# Altium schematic symbol library REUN.468349.001_PSU_Board.SchLib: 50 symbols
Pins are listed as number, name and electrical type; pins without a type are passive.

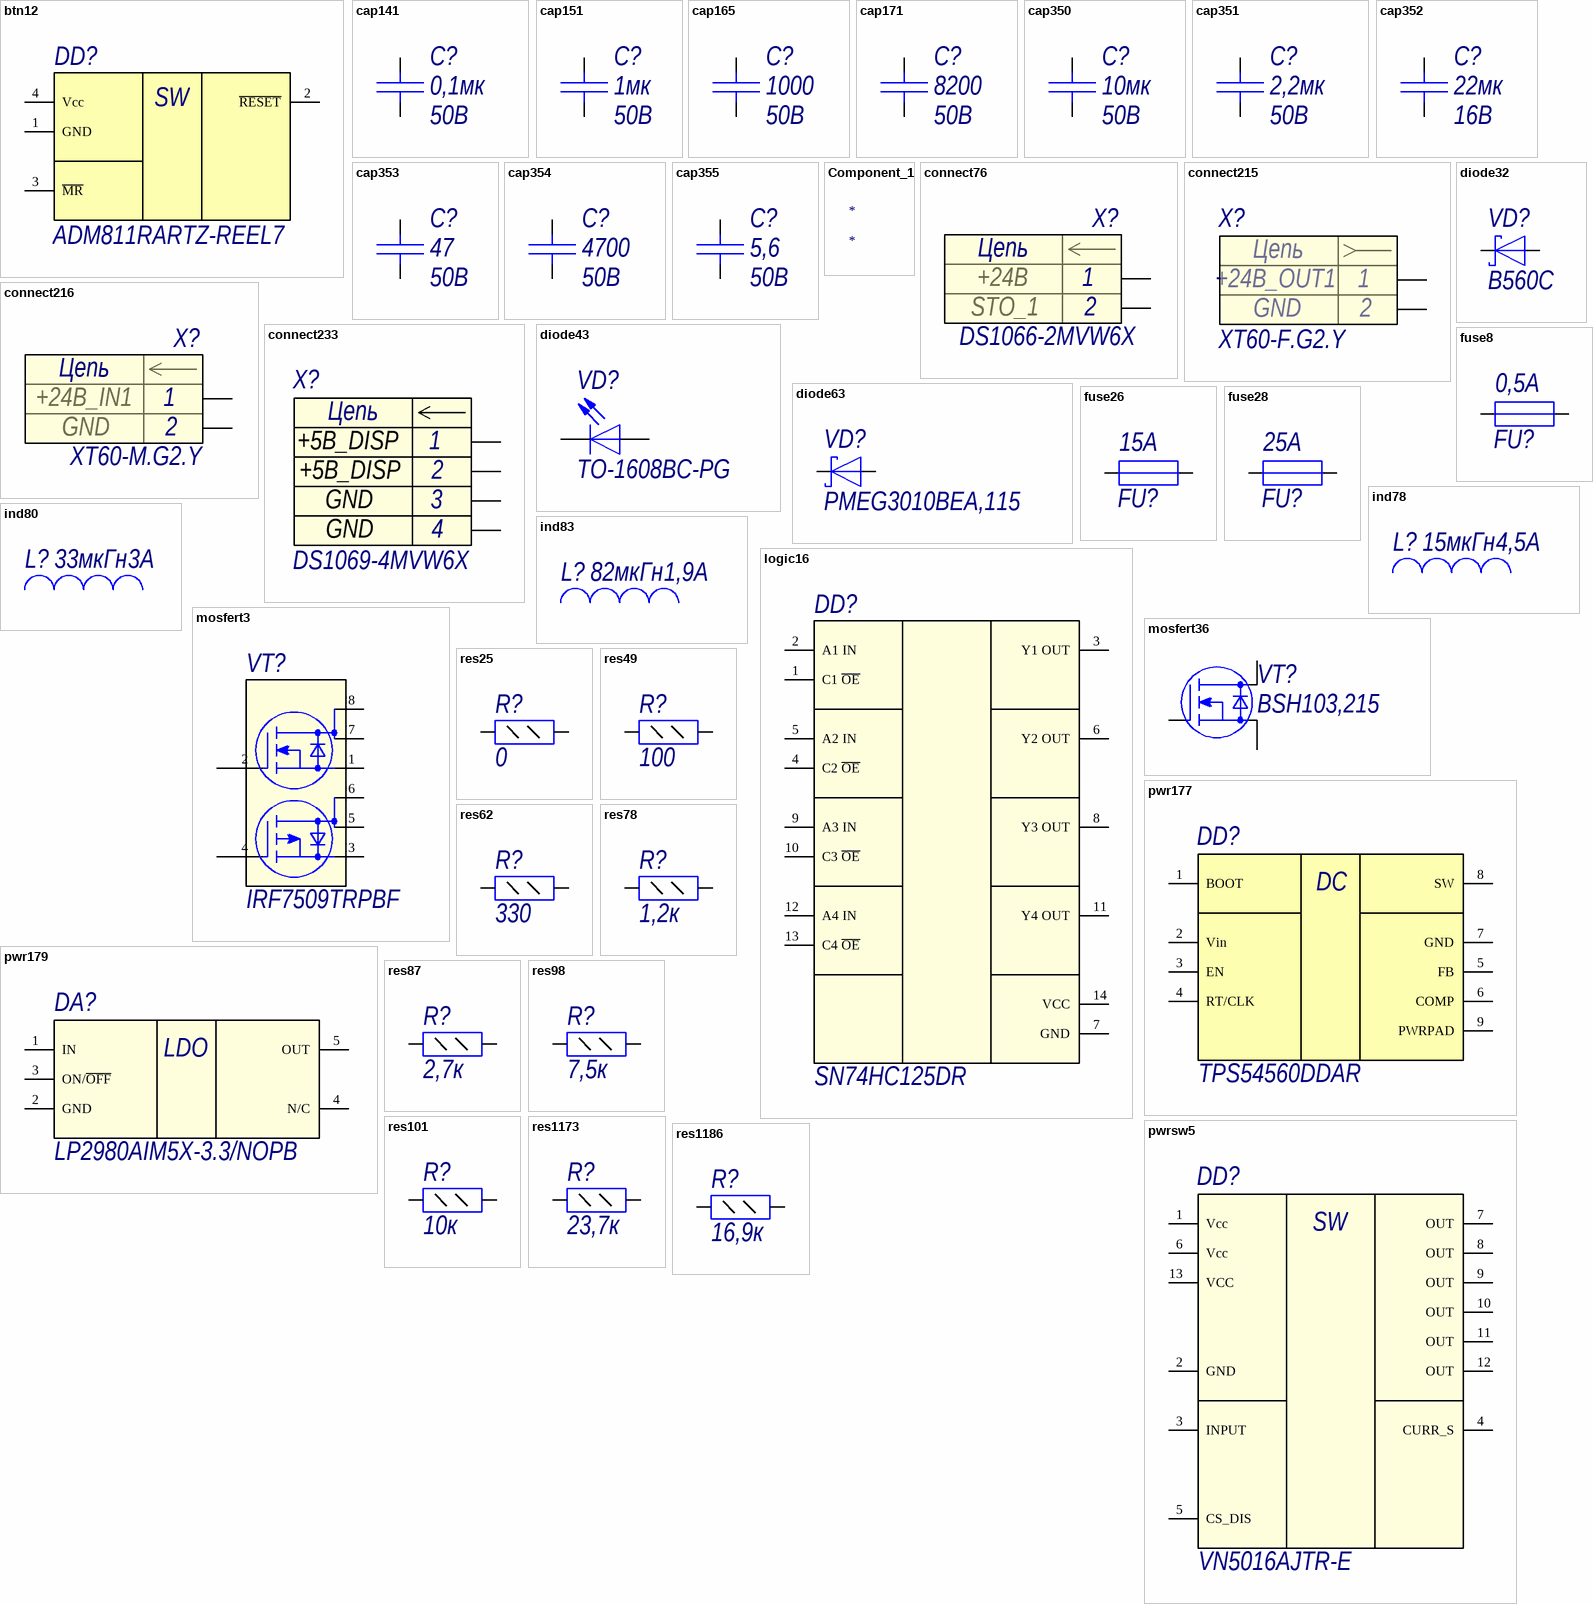
[diagram p0: symbols btn12 to res1186]

## btn12
designator DD?, comment ADM811RARTZ-REEL7
Microprocessor Supervisory / Circuit; Manufacture: Analog Devices; id: btn12; Part Name: Microprocessor Supervisory Circuit; Part Number: ADM811RARTZ-REEL7
footprint SOT-143
pins: 1 GND, 2 ~{RESET}, 3 ~{MR}, 4 Vcc
text: SW

## cap141
designator C?, comment Voltage: 50B  (hidden comment: 0,1мк)
Конденсатор; Part Name: Ceramic; Manufacture: Murata; Part Number: GRM21BR71H104KA01K; id: cap141; TKE: X7R; Value: 0,1мк
footprint C0805
pins: 1, 2

## cap151
designator C?, comment Voltage: 50B  (hidden comment: 1мк)
Конденсатор; Part Name: Ceramic; Manufacture: Murata; Part Number: GRM21BR71H105KA12L; id: cap151; TKE: X7R; Value: 1мк
footprint C0805
pins: 1, 2

## cap165
designator C?, comment Voltage: 50В  (hidden comment: 1000)
Конденсатор; Part Name: Ceramic; Manufacture: Murata; Part Number: GRM216R71H102KA01D; id: cap165; TKE: X7R; Value: 1000
footprint C0805
pins: 1, 2

## cap171
designator C?, comment Voltage: 50В  (hidden comment: 8200)
Конденсатор; Part Name: Ceramic; Manufacture: Murata; Part Number: GRM216R71H822KA01D; id: cap171; TKE: X7R; Value: 8200
footprint C0805
pins: 1, 2

## cap350
designator C?, comment Voltage: 50B  (hidden comment: 10мк)
Конденсатор; Part Name: MLCC; Manufacture: Samsung; Part Number: CL32B106KBJNNNE; id: cap350; TKE: X7R; tga: 0.10%; Value: 10мк
footprint C1210
pins: 1, 2

## cap351
designator C?, comment Voltage: 50B  (hidden comment: 2,2мк)
Конденсатор; Part Name: MLCC; Manufacture: Samsung; Part Number: CL31B225KBHNNNE; id: cap351; TKE: X7R; tga: 0.10%; Value: 2,2мк
footprint C1206
pins: 1, 2

## cap352
designator C?, comment Voltage: 16B  (hidden comment: 22мк)
Конденсатор; Part Name: MLCC; Manufacture: Samsung; Part Number: CL32B226KOJNNNE; id: cap352; TKE: X7R; tga: 0.10%; Value: 22мк
footprint C1210
pins: 1, 2

## cap353
designator C?, comment Voltage: 50B  (hidden comment: 47)
Конденсатор; Part Name: Ceramic; Manufacture: Yageo; Part Number: CC0805JRNPO9BN470; id: cap353; TKE: NP0; tga: 0.05%; Value: 47
footprint C0805
pins: 1, 2

## cap354
designator C?, comment Voltage: 50B  (hidden comment: 4700)
Конденсатор; Part Name: Ceramic; Manufacture: Yageo; Part Number: CC0805KRX7R9BB472; id: cap354; TKE: X7R; tga: 0.10%; Value: 4700
footprint C0805
pins: 1, 2

## cap355
designator C?, comment Voltage: 50B  (hidden comment: 5,6)
Конденсатор; Part Name: Ceramic; Manufacture: Samsung; Part Number: CL21C5R6CBANNNC; id: cap355; TKE: NP0; tga: 0.05%; Value: 5,6
footprint C0805
pins: 1, 2

## Component_1
designator *

## connect76
designator X?, comment DS1066-2MVW6X
Разъем - 2 конт. вилка; Part Name: Вилка на плату прямая 2мм 2pin; Manufacture: Ningbo connfly electronic; Contact_1: +24В; Contact_2: STO_1; id: connect76; Etch: 2mm; Part Number: DS1066-2MVW6X
footprint MW-2M
pins: 1, 2
text: Цепь

## connect215
designator X?, comment XT60-F.G2.Y
Разъем - 2 конт. розетка; Part Name: XT60-F; Manufacture: Amass Electronics; Contact_1: +24B_OUT1; Contact_2: GND; id: connect215; Etch: 7.2mm; Part Number: XT60-F.G2.Y
footprint XT60-F_TH
pins: 1, 2
text: Цепь

## connect216
designator X?, comment XT60-M.G2.Y
Разъем - 2 конт. вилка; Part Name: XT60-M; Manufacture: Amass Electronics; Contact_1: +24B_IN1; Contact_2: GND; id: connect216; Etch: 7.2mm; Part Number: XT60-M.G2.Y
footprint XT60-M_TH
pins: 1, 2
text: Цепь

## connect233
designator X?, comment DS1069-4MVW6X
Разъем - 4 конт. вилка; Part Name: Вилка прямая на плату; Manufacture: Connfly electronic; Contact_1: +5B_DISP; Contact_3: GND; id: connect233; Etch: 2.5мм; Contact_2: +5B_DISP; Contact_4: GND; Part Number: DS1069-4MVW6X
footprint CWF-4
pins: 1, 2, 3, 4
text: Цепь

## diode32
designator VD?, comment B560C
Диод Шоттки; Part Name: SCHOTTKY BARRIER RECTIFIER; Manufacture: Diodes Incorporated; id: diode32; Max Reverse Voltage: 60B; Forward Voltage: 0,7B; Forward Current: 5A; Reverse Current: 20mA; Capacitance: 300pF; Number: 1; Temp MAX: +150; Temp MIN: -55; Part Number: B560C
footprint SMC
pins: 1 K, 2 A

## diode43
designator VD?, comment TO-1608BC-PG
Светодиод; Part Name: LED green 0603; Manufacture: OASISTEK; id: diode43; Part Number: TO-1608BC-PG
footprint L_0603_GREEN
pins: 1 K, 2 A

## diode63
designator VD?, comment PMEG3010BEA,115
Диод Шоттки; Part Name: Diode Schottky; Manufacture: NXP Semiconductor; id: diode63; Max Reverse Voltage: 30B; Forward Voltage: 0,13B; Forward Current: 1А; Peak Current: 10A; Reverse Current: 1,5mA; Number: 1; Temp MAX: +150; Temp MIN: -65; Part Number: PMEG3010BEA,115
footprint SOD-323
pins: 1 K, 2 A

## fuse8
designator FU?, comment I hold: 0,5A  (hidden comment: Fuse)
Предохранитель; Part Name: Resettable Fuses; Manufacture: Bourns; Part Number: MF-MSMF050; id: fuse8; V max: 15B; I max: 100A; I trip: 1A; Resistance: 0,15Ohms
footprint FUSE812
pins: 1, 2

## fuse26
designator FU?, comment I max: 15А  (hidden comment: Fuse)
Предохранитель; Part Name: Glass Miniature Fuse-Links; Manufacture: Siba; Part Number: 189000.15; id: fuse26; V max: 250В; Slow blow(min): 80ms 10*I
footprint F6.3x32
pins: 1, 2

## fuse28
designator FU?, comment I max: 25A  (hidden comment: Fuse)
Предохранитель; Part Name: Fast Blow Fuse; Manufacture: KLS electronic co ltd; Part Number: KLS5-1046-25000; id: fuse28; V max: 250В
footprint F6.3x30
pins: 1, 2

## ind78
designator L?, comment value 15мкГн  Rated Current: 4,5A  (hidden comment: Inductor)
EMI Suppression Filter; Part Name: SMD Power Inductors; Part Number: B82477G4153M000; Manufacture: Epcos; id: ind78; Saturation Current: 5,25A; Resistance: 0,027Ohm
footprint IND_12.5x12.5
pins: 1, 2

## ind80
designator L?, comment value 33мкГн  Rated Current: 3A  (hidden comment: Inductor)
EMI Suppression Filter; Part Name: SMD Power Inductors; Part Number: B82477G4333M000; Manufacture: Epcos; id: ind80; Saturation Current: 3,5A; Resistance: 0,053Ohm
footprint IND_12.5x12.5
pins: 1, 2

## ind83
designator L?, comment value 82мкГн  Rated Current: 1,9A  (hidden comment: Inductor)
EMI Suppression Filter; Part Name: SMD Power Inductors; Part Number: B82477G4823M000; Manufacture: Epcos; id: ind83; Saturation Current: 2,25A; Resistance: 0,145Ohm
footprint IND_12.5x12.5
pins: 1, 2

## logic16
designator DD?, comment SN74HC125DR
Quad Tri-State Buffer IC; Manufacture: Nexperia; id: logic16; Type of Logic: 3V3 CMOS; Number of elements: 4; Input High Level: 1,75B; Input Low Level: 1,55B; Output High Level: 3,3B; Output Low Level: 0,1B; Toff: 41ns; Power Supply: 2В-6В; Part Name: Quad Tri-State Buffer; Ton: 41ns; Part Number: SN74HC125DR; Temperature: -40...+125
footprint SO14
pins: 1 C1 ~{OE} (power), 2 A1 IN (power), 3 Y1 OUT (power), 4 C2 ~{OE} (power), 5 A2 IN (power), 6 Y2 OUT (power), 7 GND (power), 8 Y3 OUT (power), 9 A3 IN (power), 10 C3 ~{OE} (power), 11 Y4 OUT (power), 12 A4 IN (power), 13 C4 ~{OE} (power), 14 VCC (power)

## mosfert3
designator VT?, comment IRF7509TRPBF
Комплементарная сборка МОП; Manufacturer: International Rectifier; id: mosfert3; Structure: n-p-channel; V drain-source max: 30B; Rds: 0,11 Ohm; Gate-to-source voltage: (+-)20B; Continuous drain current: 2A; Pulsed drain current: 16A; Power dissipation: 1,25W; Part Number: IRF7509TRPBF
footprint Micro8
pins: 1 S1, 2 G1, 3 S2, 4 G2, 5 D2, 6 D2, 7 D1, 8 D1

## mosfert36
designator VT?, comment BSH103,215
N-MOSFET; Manufacturer: Nexperia; id: mosfert36; Structure: n-channel; V drain-source max: 30B; Rds: 0,5Ohm; Gate-to-source voltage: (+-)8B; Continuous drain current: 0,85A; Total gate charge: 2100pC; Pulsed drain current: 3,4A; Power dissipation: 0,5W; Part Number: BSH103,215
footprint SOT23-3
pins: 1 G, 2 S, 3 D

## pwr177
designator DD?, comment TPS54560DDAR
5-A, Wide Input Range, Step-Down Converter; Part Name: Step Down DC-DC Converter with Eco-mode; Manufacturer: Texas Instruments; id: pwr177; Input Voltage: 4,5-60В; Output Voltage: 0,8B-58,8B; Current: 5A; Frequency: 100 kHz-25 MHz; Type: Impulse; Part Number: TPS54560DDAR
footprint SO Powerpad8
pins: 1 BOOT, 2 Vin, 3 EN, 4 RT/CLK, 5 FB, 6 COMP, 7 GND, 8 SW, 9 PWRPAD
text: DC

## pwr179
designator DA?, comment LP2980AIM5X-3.3/NOPB
Micropower 50-mA Ultra-Low-Dropout Regulator; Manufacturer: Texas Instruments; id: pwr179; Input Voltage: 2,1-16В; Output Voltage: 3,3B; Dropout Voltage: 120mB; Current: 50mA; Part Name: Micropower 50-mA Ultra-Low-Dropout Regulator; Type: Linear; Part Number: LP2980AIM5X-3.3/NOPB
footprint SOT23-5
pins: 1 IN (power), 2 GND (power), 3 ON/~{OFF} (power), 4 N/C (power), 5 OUT (power)
text: LDO

## pwrsw5
designator DD?, comment VN5016AJTR-E
Single channel high side driver with analog / current sense for automotive applications; Manufacturer: STMicroelectronics; id: pwrsw5; Overvoltage protection: 36B; Output clamp: 52В; Operating voltage: 4,5-36B; On-state resistance: 0,016Ohm; Load current: 65A; Input Logic: 3B CMOS; Short circuit: 91А; Current sense ratio: 45000; Part Name: Driver with analog current sense; Part Number: VN5016AJTR-E
footprint POWERSO12
pins: 1 Vcc (power), 2 GND (power), 3 INPUT (power), 4 CURR_S (power), 5 CS_DIS (power), 6 Vcc (power), 7 OUT (power), 8 OUT (power), 9 OUT (power), 10 OUT (power), 11 OUT (power), 12 OUT (power), 13 VCC (power)
text: SW

## res25
designator R?, comment value 0  (hidden comment: Resistor_0,125Вт)
Резистор; Manufacture: Yageo; Part Number: RC0805FR-070RL; id: res49; Accuracy: 0.01; Part Name: Resistor; Power: 0,125Вт
footprint R0805
pins: 1, 2

## res49
designator R?, comment value 100  (hidden comment: Resistor_0,125Вт)
Резистор; Manufacture: Yageo; Part Number: RC0805FR-07100RL; id: res49; Accuracy: 0.01; Part Name: Resistor; Power: 0,125Вт
footprint R0805
pins: 1, 2

## res62
designator R?, comment value 330  (hidden comment: Resistor_0,125Вт)
Резистор; Manufacture: Yageo; Part Number: RC0805FR-07330RL; id: res62; Accuracy: 0.01; Part Name: Resistor; Power: 0,125Вт
footprint R0805
pins: 1, 2

## res78
designator R?, comment value 1,2к  (hidden comment: Resistor_0,125Вт)
Резистор; Manufacture: Yageo; Part Number: RC0805FR-071K2; id: res78; Accuracy: 0.01; Part Name: Resistor; Power: 0,125Вт
footprint R0805
pins: 1, 2

## res87
designator R?, comment value 2,7к  (hidden comment: Resistor_0,125Вт)
Резистор; Manufacture: Yageo; Part Number: RC0805FR-072K7; id: res87; Accuracy: 0.01; Part Name: Resistor; Power: 0,125Вт
footprint R0805
pins: 1, 2

## res98
designator R?, comment value 7,5к  (hidden comment: Resistor_0,125Вт)
Резистор; Manufacture: Yageo; Part Number: RC0805FR-077K5; id: res98; Accuracy: 0.01; Part Name: Resistor; Power: 0,125Вт
footprint R0805
pins: 1, 2

## res101
designator R?, comment value 10к  (hidden comment: Resistor_0,125Вт)
Резистор; Manufacture: Yageo; Part Number: RC0805FR-0710KL; id: res101; Accuracy: 0.01; Part Name: Resistor; Power: 0,125Вт
footprint R0805
pins: 1, 2

## res1173
designator R?, comment value 23,7к  (hidden comment: Resistor_0,125Вт)
Резистор; Manufacture: Yageo; Part Number: RC0805FR-0723K7L; id: res1173; Accuracy: 0.01; Part Name: Resistor; Power: 0,125Вт
footprint R0805
pins: 1, 2

## res1186
designator R?, comment value 16,9к  (hidden comment: Resistor_0,125Вт)
Резистор; Manufacture: Yageo; Part Number: RC0805FR-0716K9L; id: res1186; Accuracy: 0.01; Part Name: Resistor; Power: 0,125Вт
footprint R0805
pins: 1, 2

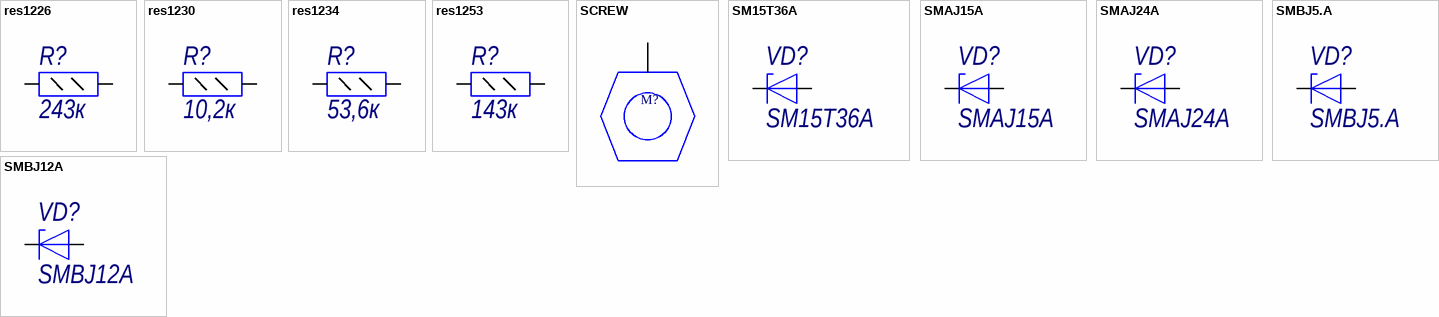
[diagram p1: symbols res1226 to SMBJ12A]

## res1226
designator R?, comment value 243к  (hidden comment: Resistor_0,125Вт)
Резистор; Manufacture: Yageo; Part Number: RC0805FR-07243KL; id: res1226; Accuracy: 0.01; Part Name: Resistor; Power: 0,125Вт
footprint R0805
pins: 1, 2

## res1230
designator R?, comment value 10,2к  (hidden comment: Resistor_0,125Вт)
Резистор; Manufacture: Yageo; Part Number: RC0805FR-0710K2L; id: res1230; Accuracy: 0.01; Part Name: Resistor; Power: 0,125Вт
footprint R0805
pins: 1, 2

## res1234
designator R?, comment value 53,6к  (hidden comment: Resistor_0,125Вт)
Резистор; Manufacture: Yageo; Part Number: RC0805FR-0753K6L; id: res1234; Accuracy: 0.01; Part Name: Resistor; Power: 0,125Вт
footprint R0805
pins: 1, 2

## res1253
designator R?, comment value 143к  (hidden comment: Resistor_0,125Вт)
Резистор; Manufacture: Yageo; Part Number: RC0805FR-07143KL; id: res1253; Accuracy: 0.01; Part Name: Resistor; Power: 0,125Вт
footprint R0805
pins: 1, 2

## SCREW
designator M?
footprint SCREW3.5
pins: 1

## SM15T36A
designator VD?
Cтабилитрон (лавинный выпрямительный диод) односторонний; Part Name: TVS diode Unidirectional; Manufacture: ST Microelectronics; id: tvs258; Leakage Current: 0.2uA; Stand-off Voltage: 34.2B; Breakdown Voltage: 36B; Clamping voltage: 37.8B; Peak Pulse Power: 1500W; Number of diodes: 1; Part Number: SM15T36A
footprint SMC
pins: 1 K, 2 A

## SMAJ15A
designator VD?
Cтабилитрон (лавинный выпрямительный диод) односторонний; Part Name: TVS diode Unidirectional; Manufacture: ST Microelectronics; id: tvs130; Leakage Current: 0,2uA; Stand-off Voltage: 15B; Breakdown Voltage: 17,6B; Clamping voltage: 24,4B; Dynamic resistance: 0,361Ohm; Peak Pulse Power: 400W; Number of diodes: 1; Part Number: SMAJ15A
footprint SMA
pins: 1 K, 2 A

## SMAJ24A
designator VD?
Cтабилитрон (лавинный выпрямительный диод) односторонний; Part Name: TVS diode Unidirectional; Manufacture: ST Microelectronics; id: tvs134; Leakage Current: 0,2uA; Stand-off Voltage: 24B; Breakdown Voltage: 28,1B; Clamping voltage: 38,9B; Dynamic resistance: 0,912Ohm; Peak Pulse Power: 400W; Number of diodes: 1; Part Number: SMAJ24A
footprint SMA
pins: 1 K, 2 A

## SMBJ5.A
designator VD?
Cтабилитрон (лавинный выпрямительный диод) односторонний; Part Name: TVS diode Unidirectional; Manufacture: ST Microelectronics; id: tvs68; Leakage Current: 20uA; Stand-off Voltage: 5B; Breakdown Voltage: 6,74B; Clamping voltage: 9,2B; Dynamic resistance: 0,031Ohm; Peak Pulse Power: 600W; Number of diodes: 1; Part Number: SMBJ5.A
footprint SMB
pins: 1 K, 2 A

## SMBJ12A
designator VD?
Cтабилитрон (лавинный выпрямительный диод) односторонний; Part Name: TVS diode Unidirectional; Manufacture: ST Microelectronics; id: tvs73; Leakage Current: 0,2uA; Stand-off Voltage: 12B; Breakdown Voltage: 14B; Clamping voltage: 19,9B; Dynamic resistance: 0,168Ohm; Peak Pulse Power: 600W; Number of diodes: 1; Part Number: SMBJ12A
footprint SMB
pins: 1 K, 2 A